# Altium footprint library OPL_Connector.PCBLIB: 45 footprints (part 2 of 3)
Each footprint in its own frame and in the unit in brackets; x right, y up, seen from the top. Pads: shape width x height; smd on the part's side, far side on the other; paste and mask are expansions set on the pad; w line width, h text height; cw(c..) or ccw(c..) is an arc to the next point about the centre after c.
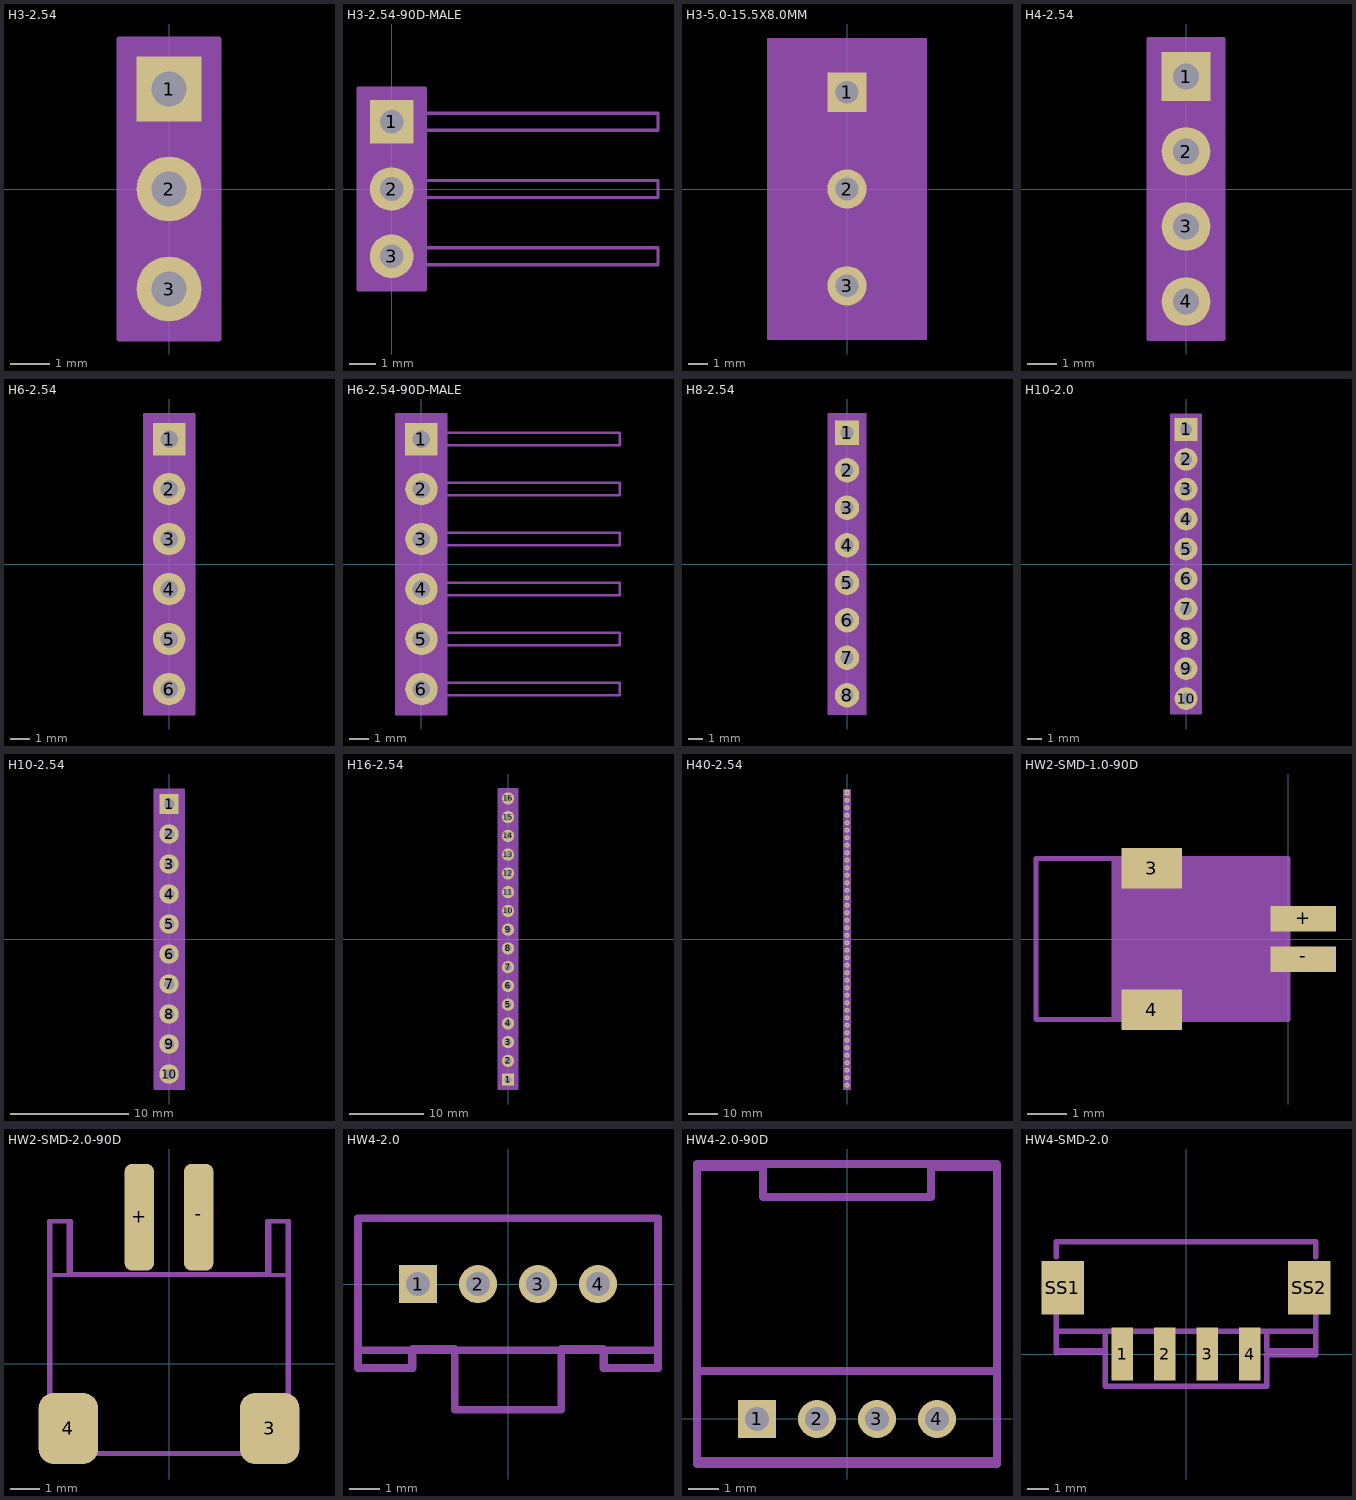
[diagram p1: the footprints below, top view; thin cyan lines are the x and y axes]

## H3-2.54 [mil]
pads (3):
  rect 65x65 hole 35: 1(0,100)
  round 65 hole 35: 2(0,0) 3(0,-100)
Mechanical 2:
  lines w5: -50,-150 50,-150 50,150 -50,150 -50,-150
Mech34:
  region: -50,-150 -50,150 50,150 50,-150
  lines w0: -50,-150 50,-150 50,150 -50,150 -50,-150

## H3-2.54-90D-MALE [mil]
pads (3):
  rect 65x65 hole 35: 1(0,100)
  round 65 hole 35: 2(0,0) 3(0,-100)
Mechanical 2:
  lines w5: -50,-150 50,-150 50,150 -50,150 -50,-150
Mech34:
  region: -50,-150 -50,150 50,150 50,-150
  lines w0: -50,-150 50,-150 50,150 -50,150 -50,-150
Mech39:
  lines w5: 50,-112.6 50,-87.4 396.06,-87.4 396.06,-112.6 50,-112.6 ; 50,-12.6 50,12.6 396.06,12.6 396.06,-12.6 50,-12.6 ; 50,87.4 50,112.6 396.06,112.6 396.06,87.4 50,87.4

## H3-5.0-15.5X8.0MM [mil]
pads (3):
  rect 80x80 hole 46: 1(0,196.85)
  round 80 hole 46: 2(0,0) 3(0,-196.85)
Mechanical 2:
  circle w5: c0,200 r90.14
  circle w5: c0,0 r90.14
  circle w5: c0,-200 r90.14
  lines w5: -160,-305 160,-305 160,305 -160,305 -160,-305 ; -100,-295 100,-295 100,295 -100,295 -100,-295
Mech34:
  region: -160,-305 -160,305 160,305 160,-305

## H4-2.54 [mil]
pads (4):
  rect 65x65 hole 35: 1(0,150)
  round 65 hole 35: 2(0,50) 3(0,-50) 4(0,-150)
Mechanical 2:
  lines w5: -50,-200 50,-200 50,200 -50,200 -50,-200
Mech34:
  region: -50,-200 -50,200 50,200 50,-200
  lines w0: -50,-200 50,-200 50,200 -50,200 -50,-200

## H6-2.54 [mil]
pads (6):
  rect 65x65 hole 35: 1(0,250)
  round 65 hole 35: 2(0,150) 3(0,50) 4(0,-50) 5(0,-150) 6(0,-250)
Mechanical 2:
  lines w5: -50,-300 50,-300 50,300 -50,300 -50,-300
Mech34:
  region: -50,-300 -50,300 50,300 50,-300
  lines w0: -50,-300 50,-300 50,300 -50,300 -50,-300

## H6-2.54-90D-MALE [mil]
pads (6):
  rect 65x65 hole 35: 1(0,250)
  round 65 hole 35: 2(0,150) 3(0,50) 4(0,-50) 5(0,-150) 6(0,-250)
Mechanical 2:
  lines w5: -50,-300 50,-300 50,300 -50,300 -50,-300
Mech34:
  region: -50,-300 -50,300 50,300 50,-300
  lines w0: -50,-300 50,-300 50,300 -50,300 -50,-300
Mech39:
  lines w5: 50,-262.6 50,-237.4 396.06,-237.4 396.06,-262.6 50,-262.6 ; 50,-162.6 50,-137.4 396.06,-137.4 396.06,-162.6 50,-162.6 ; 50,-62.6 50,-37.4 396.06,-37.4 396.06,-62.6 50,-62.6 ; 50,37.4 50,62.6 396.06,62.6 396.06,37.4 50,37.4 ; 50,137.4 50,162.6 396.06,162.6 396.06,137.4 50,137.4 ; 50,237.4 50,262.6 396.06,262.6 396.06,237.4 50,237.4

## H8-2.54 [mil]
pads (8):
  rect 65x65 hole 35: 1(0,350)
  round 65 hole 35: 2(0,250) 3(0,150) 4(0,50) 5(0,-50) 6(0,-150) 7(0,-250) 8(0,-350)
Mechanical 2:
  lines w5: -50,-400 50,-400 50,400 -50,400 -50,-400
Mech34:
  region: -50,-400 -50,400 50,400 50,-400

## H10-2.0 [mil]
pads (10):
  rect 60x60 hole 32: 1(0,354.33)
  round 60 hole 32: 2(0,275.59) 3(0,196.85) 4(0,118.11) 5(0,39.37) 6(0,-39.37) 7(0,-118.11) 8(0,-196.85) 9(0,-275.59) 10(0,-354.33)
Mechanical 2:
  lines w5: -39.37,-393.7 39.37,-393.7 39.37,393.7 -39.37,393.7 -39.37,-393.7
Mech34:
  region: -40,-395 -40,395 40,395 40,-395

## H10-2.54 [mil]
pads (10):
  rect 65x65 hole 35: 1(0,450)
  round 65 hole 35: 2(0,350) 3(0,250) 4(0,150) 5(0,50) 6(0,-50) 7(0,-150) 8(0,-250) 9(0,-350) 10(0,-450)
Mechanical 2:
  lines w5: -50,-500 50,-500 50,500 -50,500 -50,-500
Mech34:
  region: -50,-500 -50,500 50,500 50,-500
  lines w0: -50,-500 50,-500 50,500 -50,500 -50,-500

## H16-2.54 [mil]
pads (16):
  rect 65x65 hole 35: 1(0,-750)
  round 65 hole 35: 2(0,-650) 3(0,-550) 4(0,-450) 5(0,-350) 6(0,-250) 7(0,-150) 8(0,-50) 9(0,50) 10(0,150) 11(0,250) 12(0,350) 13(0,450) 14(0,550) 15(0,650) 16(0,750)
Mechanical 2:
  lines w8: -25,-800 25,-800 ; -25,800 25,800
  lines w10: -50,-800 50,-800 50,800 -50,800 -50,-800
Mech34:
  region: 50,-800 -50,-800 -50,800 50,800

## H40-2.54 [mm]
pads (40):
  rect 1.7x1.7 hole 1: 1(0,49.53)
  round 1.7 hole 1: 2(0,46.99) 3(0,44.45) 4(0,41.91) 5(0,39.37) 6(0,36.83) 7(0,34.29) 8(0,31.75) 9(0,29.21) 10(0,26.67) 11(0,24.13) 12(0,21.59) 13(0,19.05) 14(0,16.51) 15(0,13.97) 16(0,11.43) 17(0,8.89) 18(0,6.35) 19(0,3.81) 20(0,1.27) 21(0,-1.27) 22(0,-3.81) 23(0,-6.35) 24(0,-8.89) 25(0,-11.43) 26(0,-13.97) 27(0,-16.51) 28(0,-19.05) 29(0,-21.59) 30(0,-24.13) 31(0,-26.67) 32(0,-29.21) 33(0,-31.75) 34(0,-34.29) 35(0,-36.83) 36(0,-39.37) 37(0,-41.91) 38(0,-44.45) 39(0,-46.99) 40(0,-49.53)
Mechanical 2:
  lines w0.127: -1.27,-50.8 -1.27,50.8 1.27,50.8 1.27,-50.8 -1.27,-50.8
Mech34:
  region: -1.27,-50.8 -1.27,50.8 1.27,50.8 1.27,-50.8

## HW2-SMD-1.0-90D [mil]
pads (4):
  rect 60x40 smd: 3(-135,70) 4(-135,-70)
  rect 65x25 smd: +(15,20) -(15,-20)
Mechanical 2:
  lines w5: -98.43,-80 0,-80 0,-39.37 ; -94.49,80 0,80 0,39.37 ; -250,-80 -250,80 -170,80 -170,-80 -250,-80
Mechanical 8:
  lines w5: -170,-80 0,-80 0,80 -170,80
Mech34:
  region: -175,-80 -175,80 0,80 0,-80

## HW2-SMD-2.0-90D [mm]
pads (4):
  rrect50% 2x2.4 smd: 3(3.4,-2.181) 4(-3.4,-2.181)
  rrect50% 1x3.6 smd: +(-1,4.953) -(1,4.953)
Mechanical 2:
  lines w0.127: -4,-0.7 -4,3 ; -2.1,-3 2.2,-3 ; 4,-0.8 4,3 ; -4,3 -3.4,3 ; -4,3 -4,4.8 -3.4,4.8 -3.4,3 ; -3.4,3 3.4,3 ; 3.4,3 4,3 ; 3.4,3 3.4,4.8 4,4.8 4,3
Mechanical 8:
  lines w0.127: -4,3 -4,-3 4,-3 4,3
Mech34:
  lines w0.127: -4.064,-3.048 4.064,-3.048 4.064,4.826 3.302,4.826 3.302,3.048 -3.302,3.048 -3.302,4.826 -4.064,4.826 -4.064,-3.048

## HW4-2.0 [mil]
pads (4):
  rect 50x50 hole 31.5: 1(-118.11,0)
  round 50 hole 31.5: 2(-39.37,0) 3(39.37,0) 4(118.11,0)
Mechanical 2:
  lines w5: -196.85,-39.37 -196.85,39.37
  lines w10: 196.85,-59.06 196.85,59.06 ; -196.85,-86.61 -196.85,86.61 196.85,86.61 196.85,-86.61 ; -196.85,-86.61 -125.98,-86.61 ; -196.85,-86.61 -196.85,-110.24 -125.98,-110.24 -125.98,-86.61 ; -125.98,-86.61 125.98,-86.61 ; 125.98,-86.61 196.85,-86.61 ; 125.98,-86.61 125.98,-110.24 196.85,-110.24 196.85,-86.61
Mech34:
  lines w10: -196.85,-110.24 -196.85,86.61 196.85,86.61 196.85,-110.24 ; -195,-110 -125,-110 -125,-85 -70,-85 -70,-165 70,-165 70,-85 125,-85 125,-110 195,-110

## HW4-2.0-90D [mil]
pads (4):
  rect 50x50 hole 31.5: 1(-118.11,0)
  round 50 hole 31.5: 2(-39.37,0) 3(39.37,0) 4(118.11,0)
Mechanical 2:
  lines w5: -196.85,-39.37 -196.85,39.37
  lines w10: -196.85,62.99 -196.85,330.71 -110.24,330.71 -110.24,291.34 110.24,291.34 110.24,330.71 196.85,330.71 196.85,62.99 ; -196.85,62.99 -196.85,-59.06 196.85,-59.06 196.85,62.99 ; -196.85,62.99 196.85,62.99
Mech34:
  lines w10: -196.85,-55.12 196.85,-55.12 196.85,334.65 -196.85,334.65 -196.85,-55.12

## HW4-SMD-2.0 [mm]
pads (6):
  rect 1x2.5 smd: 1(-3,0) 2(-1,0) 3(1,0) 4(3,0)
  rect 2x2.5 smd: SS1(-5.8,3.123) SS2(5.8,3.123)
Mechanical 2:
  lines w0.254: -6.1,1.719 -6.1,1.073 ; -6.1,4.573 -6.1,5.273 6.1,5.273 6.1,4.573 ; -2.4,1.073 -1.7,1.073 ; -0.4,1.073 0.3,1.073 ; 1.6,1.073 2.3,1.073 ; 6.1,1.719 6.1,1.073 ; -6.1,1.073 -3.8,1.073 -3.8,0.173 -6.1,0.173 -6.1,1.073 ; 6.1,1.073 3.8,1.073 3.8,0.173 6.1,0.173 6.1,1.073
Mechanical 8:
  lines w0.254: -3.8,1.073 3.8,1.073
Mech34:
  lines w0.254: -6.1,0.073 -6.1,1.973 ; -6.1,4.573 -6.1,5.273 6.1,5.273 6.1,4.573 ; -6.053,0.079 -3.775,0.079 ; -3.8,0.073 -3.8,-1.5 3.8,-1.5 3.8,-0.027 ; 3.775,-0.021 6.053,-0.021 ; 6.1,-0.027 6.1,1.973